# Altium schematic symbol library Induct-filter.SchLib: 218 symbols (part 1 of 2)
Pins are listed as number, name and electrical type; pins without a type are passive.

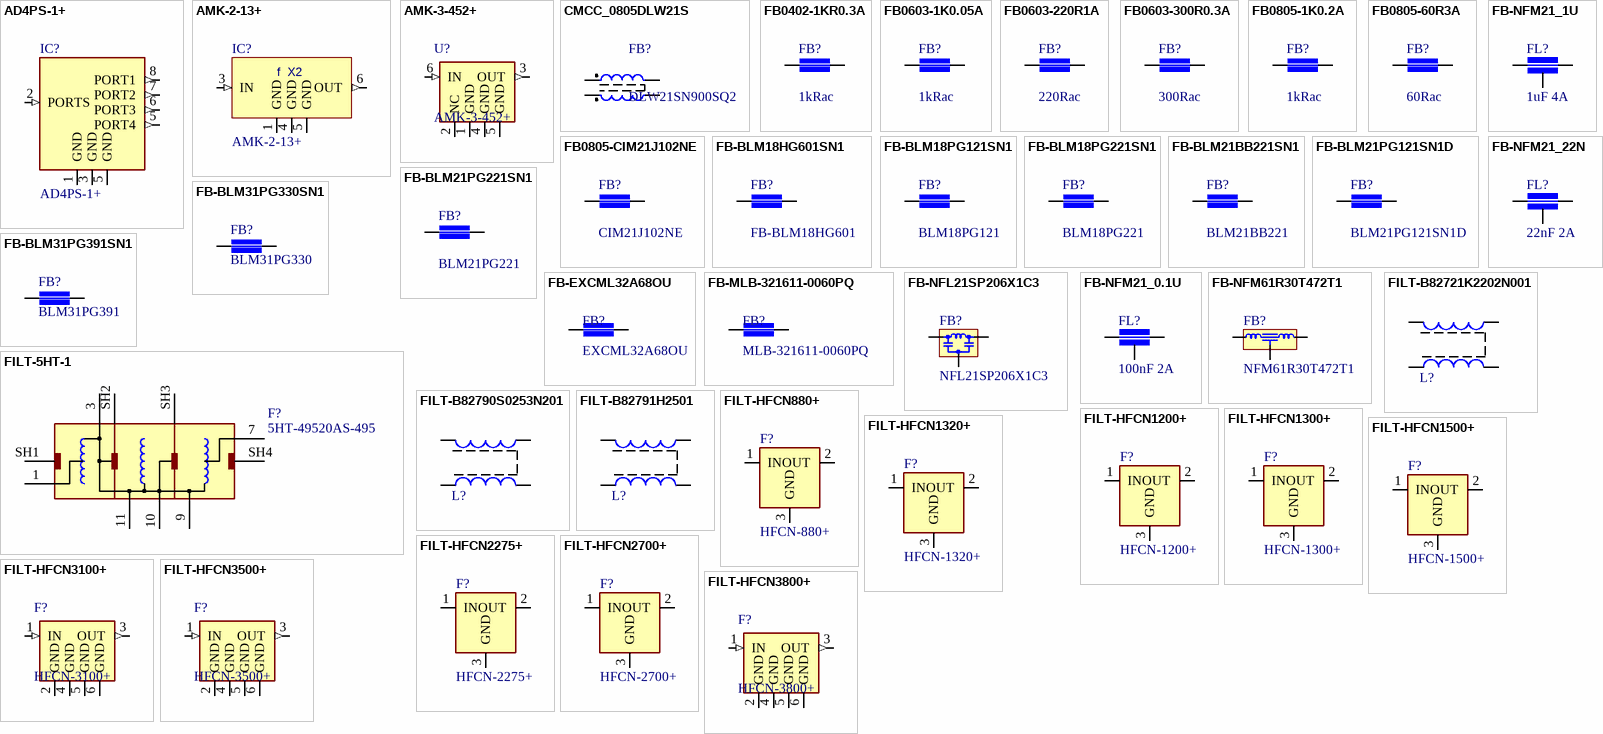
[diagram p0: symbols AD4PS-1+ to FILT-HFCN3800+]

## AD4PS-1+
designator IC?
X2 Frequency multiplier; Manufacturer: Mini Circuits; Sort: 510; Tech: SMDR; Manufacturer No: AD4PS-1+; Package: CJ725; Price: 0
footprint RFTRF-CD452
pins: 1 GND (power), 2 PORTS (in), 3 GND (power), 5 GND (power), 5 PORT4 (out), 6 PORT3 (out), 7 PORT2 (out), 8 PORT1 (out)

## AMK-2-13+
designator IC?
X2 Frequency multiplier; Manufacturer: Mini Circuits; Sort: 510; Tech: SMDR; Manufacturer No: AMK-2-13+; Package: CD542; Price: 0
footprint RFTRF-CD452
pins: 1 GND (power), 3 IN (in), 4 GND (power), 5 GND (power), 6 OUT (out)
text: f  X2

## AMK-3-452+
designator U?
X3 Frequency Multiplier; Manufacturer: MiniCircuits; Comment2: FROM 3000 TO 4500MHz  50R; Sort: 330; Tech: SMDR; Manufacturer No: AMK-3-452+; Package: CD636; Price: 0
footprint CD636 (X3 Frequency Multiplier 6 pin R2.54mm)
pins: 1 GND (power), 2 NC (power), 3 OUT (out), 4 GND (power), 5 GND (power), 6 IN (in)

## CMCC_0805DLW21S
designator FB?, comment DLW21SN900SQ2
Chip Common Mode Choke Coils 0805; Manufacturer: Murata, Farnell; Manufacturer No: DLW21SN900SQ2, 1515594; Comment2: 90R 330mA 50V 10MR; Sort: 342; Tech: SMDR; Package: Chip Coil 0805; Price: 0
signal-integrity model Model Name (Model Description)
footprint CCMCC0805 (Chip Common Mode Choke Coil 0805)
pins: 1, 2, 3, 4

## FB0402-1KR0.3A
designator FB?, comment 1kRac
Feritte filter smd 0402 0.2A; Manufacturer: Wuerth, Farnell; Manufacturer No: 742792796, 1800341; Comment2: 1kRac/100MHz 0.2A 1.5Rdc; Sort: 342; Tech: SMDR; Package: Filter Chip 0603; Price: 0.2
signal-integrity model Model Name (Model Description)
footprint FB0402-1 (Chip Ferrite Bead, 2-Leads, Body 1,6x0,8mm, IPC Medium Density)
pins: 1, 2

## FB0603-1K0.05A
designator FB?, comment 1kRac
Feritte filter smd 0603 0.05A; Manufacturer: Wuerth, Farnell; Manufacturer No: 742861210, 1748582; Comment2: 1kRac/100MHz 0.05A 1.8Rdc; Sort: 342; Tech: SMDR; Package: Filter Chip 0603; Price: 0.2
signal-integrity model Model Name (Model Description)
footprint FB0603-1 (Chip Ferrite Bead, 2-Leads, Body 1,6x0,8mm, IPC Medium Density)
pins: 1, 2

## FB0603-220R1A
designator FB?, comment 220Rac
Feritte filter smd 0603 1A; Manufacturer: Wuerth Elektronik, Farnell; Manufacturer No: 742792604, 1635701; Comment2: 220Rac 1.0A 0.05Rdc; Sort: 342; Tech: SMDR; Package: Filter Chip 0603; Price: 0.15
signal-integrity model Model Name (Model Description)
footprint FB0603-1 (Chip Ferrite Bead, 2-Leads, Body 1,6x0,8mm, IPC Medium Density)
pins: 1, 2

## FB0603-300R0.3A
designator FB?, comment 300Rac
Feritte filter smd 0603 0.3A; Manufacturer: Wuerth, Farnell; Manufacturer No: 742792640, 1800348; Comment2: 300Rac/100MHz 0.3A 0.35Rdc; Sort: 342; Tech: SMDR; Package: Filter Chip 0603; Price: 0.2
signal-integrity model Model Name (Model Description)
footprint FB0603-1 (Chip Ferrite Bead, 2-Leads, Body 1,6x0,8mm, IPC Medium Density)
pins: 1, 2

## FB0805-1K0.2A
designator FB?, comment 1kRac
Feritte filter smd 0805 0.2A; Manufacturer: Wurth Elektronik, Farnell; Manufacturer No: 74279205, 1635721; Comment2: 1KRac 0.2A 0.45Rdc; Sort: 342; Tech: SMDR; Package: Filter Chip 0805; Price: 0
signal-integrity model Model Name (Model Description)
footprint FB0805-1 (Chip Ferrite Bead, 2-Leads, Body 2,0x1,3mm, IPC Medium Density)
pins: 1, 2

## FB0805-60R3A
designator FB?, comment 60Rac
Feritte filter smd 0805 3A; Manufacturer: Wuerth Elektronik, Farnell; Manufacturer No: 742792063, 1635730; Comment2: 60Rac 3A 0.025Rdc; Sort: 342; Tech: SMDR; Package: Filter Chip 0805; Price: 0
signal-integrity model Model Name (Model Description)
footprint FB0805-1 (Chip Ferrite Bead, 2-Leads, Body 2,0x1,3mm, IPC Medium Density)
pins: 1, 2

## FB0805-CIM21J102NE
designator FB?, comment CIM21J102NE
Feritte filter smd 0805 500mA; Manufacturer: Samsung EMA; Comment2: 1kRac 500mA 0.4Rdc; Sort: 342; Tech: SMDR; Manufacturer No: CIM21J102NE; Package: Filter Chip 0805; Price: 0.1; Supplier: Digi-Key; Supplier No: 1276-6331-1-ND
signal-integrity model Model Name (Model Description)
footprint FB0805-1 (Chip Ferrite Bead, 2-Leads, Body 2,0x1,3mm, IPC Medium Density)
pins: 1, 2

## FB-BLM18HG601SN1
designator FB?, comment FB-BLM18HG601
Feritte filter smd 0603 0.2A; Manufacturer: Murata; Manufacturer No: BLM18HG601SN1; Comment2: 600Rac/100MHz 700Rac/1GHz 0.2A 1.0Rdc; Sort: 342; Tech: SMDR; Package: Filter Chip 0603; Price: 0
signal-integrity model Model Name (Model Description)
footprint FB0603-1 (Chip Ferrite Bead, 2-Leads, Body 1,6x0,8mm, IPC Medium Density)
pins: 1, 2

## FB-BLM18PG121SN1
designator FB?, comment BLM18PG121
Feritte filter smd 0603 2A; Manufacturer: Murata; Manufacturer No: BLM18PG121SN1; Comment2: 120Rac 2A 0.05Rdc; Sort: 342; Tech: SMDR; Package: Filter Chip 0603; Price: 0
signal-integrity model Model Name (Model Description)
footprint FB0603-1 (Chip Ferrite Bead, 2-Leads, Body 1,6x0,8mm, IPC Medium Density)
pins: 1, 2

## FB-BLM18PG221SN1
designator FB?, comment BLM18PG221
Feritte filter smd 0603 1.4A; Manufacturer: Murata; Manufacturer No: BLM18PG221SN1; Comment2: 220Rac 1.4A 0.1Rdc; Sort: 342; Tech: SMDR; Package: Filter Chip 0603; Price: 0
signal-integrity model Model Name (Model Description)
footprint FB0603-1 (Chip Ferrite Bead, 2-Leads, Body 1,6x0,8mm, IPC Medium Density)
pins: 1, 2

## FB-BLM21BB221SN1
designator FB?, comment BLM21BB221
Feritte filter smd 0805 0.2A; Manufacturer: Murata; Manufacturer No: BLM21BB221SN1; Comment2: 220Rac 0.2A 0.035Rdc; Sort: 342; Tech: SMDR; Package: Filter Chip 0805; Price: 0
signal-integrity model Model Name (Model Description)
footprint FB0805-1 (Chip Ferrite Bead, 2-Leads, Body 2,0x1,3mm, IPC Medium Density)
pins: 1, 2

## FB-BLM21PG121SN1D
designator FB?, comment BLM21PG121SN1D
Feritte filter smd 0805 3A; Manufacturer: Murata; Comment2: 120Rac 3A 0.025Rdc; Sort: 342; Tech: SMDR; Manufacturer No: BLM21PG121SN1D; Package: Filter Chip 0805; Price: 0.13; Supplier: Digi-Key; Supplier No: 490-5986-1-ND
signal-integrity model Model Name (Model Description)
footprint FB0805-1 (Chip Ferrite Bead, 2-Leads, Body 2,0x1,3mm, IPC Medium Density)
pins: 1, 2

## FB-BLM21PG221SN1
designator FB?, comment BLM21PG221
Feritte filter smd 0805 2A; Manufacturer: Murata; Manufacturer No: BLM21PG221SN1; Comment2: 220Rac 2A 0.05Rdc; Sort: 342; Tech: SMDR; Package: Filter Chip 0805; Price: 0
signal-integrity model Model Name (Model Description)
footprint FB0805-1 (Chip Ferrite Bead, 2-Leads, Body 2,0x1,3mm, IPC Medium Density)
pins: 1, 2

## FB-BLM31PG330SN1
designator FB?, comment BLM31PG330
Feritte filter smd 6A; Manufacturer: Murata; Manufacturer No: BLM31PG330SN1; Comment2: 33Rac 6A 0.01Rdc; Sort: 342; Tech: SMDR; Package: Filter Chip 1206; Price: 0
footprint FB1206-1 (Feritni filter smd 1206)
signal-integrity model Model Name (Model Description)
pins: 1, 2

## FB-BLM31PG391SN1
designator FB?, comment BLM31PG391
Feritte filter smd; Manufacturer: Murata; Manufacturer No: BLM31PG391SN1; Comment2: 390Rac 2A 0.05Rdc; Sort: 342; Tech: SMDR; Package: Filter Chip 1206; Price: 0
footprint FB1206-1 (Feritni filter smd 1206)
signal-integrity model Model Name (Model Description)
pins: 1, 2

## FB-EXCML32A68OU
designator FB?, comment EXCML32A68OU
Feritte filter smd 3A; Manufacturer: Farnell, Panasonic; Manufacturer No: 1292704, EXCML32A68OU; Comment2: 68Rac 3A 0.012Rdc; Sort: 342; Tech: SMDR; Package: Filter Chip 1206; Price: 0
footprint FB1206-1 (Feritni filter smd 1206)
signal-integrity model Model Name (Model Description)
pins: 1, 2

## FB-MLB-321611-0060PQ
designator FB?, comment MLB-321611-0060PQ
Feritte filter smd 3A; Manufacturer: Farnell, Kitagawa; Manufacturer No: 1308785, MLB-321611-0060PQ; Comment2: 60Rac 3A 0.04Rdc; Sort: 342; Tech: SMDR; Package: Filter Chip 1206; Price: 0
footprint FB1206-1 (Feritni filter smd 1206)
signal-integrity model Model Name (Model Description)
pins: 1, 2

## FB-NFL21SP206X1C3
designator FB?, comment NFL21SP206X1C3
Feritte filter smd; Manufacturer: Murata; Comment2: 20MHz 100mA 8.5R 16V; Sort: 342; Tech: SMDR; Manufacturer No: NFL21SP206X1C3; Package: Filter Chip 0805; Price: 0
signal-integrity model Model Name (Model Description)
footprint FV0805-1 (Chip filter 0805)
pins: 1, 2, 3 GND

## FB-NFM21_0.1U
designator FL?, comment 100nF 2A
Feritte filter smd; Manufacturer: Murata; Manufacturer No: NFM21PC104R1E3D; Comment2: 100nF 2A 25V; Sort: 342; Tech: SMDR; Package: Filter Chip 0805; Price: 0.2
signal-integrity model Model Name (Model Description)
footprint FV0805-1 (Chip filter 0805)
pins: 1, 2, 3 GND

## FB-NFM21_1U
designator FL?, comment 1uF 4A
Feritte filter smd; Manufacturer: Murata; Manufacturer No: NFM21PC105B1C3; Comment2: 1uF 4A 16V; Sort: 342; Tech: SMDR; Package: Filter Chip 0805; Price: 0.2
signal-integrity model Model Name (Model Description)
footprint FV0805-1 (Chip filter 0805)
pins: 1, 2, 3 GND

## FB-NFM21_22N
designator FL?, comment 22nF 2A
Feritte filter smd; Manufacturer: Murata; Manufacturer No: NFM21CC223R1H3; Comment2: 22nF 2A 50V; Sort: 342; Tech: SMDR; Package: Filter Chip 0805; Price: 0
signal-integrity model Model Name (Model Description)
footprint FV0805-1 (Chip filter 0805)
pins: 1, 2, 3 GND

## FB-NFM61R30T472T1
designator FB?, comment NFM61R30T472T1
Feritte filter smd; Manufacturer: Murata; Comment2: 4700pF 2A 50V; Sort: 342; Tech: SMDR; Manufacturer No: NFM61R30T472T1; Package: Filter 6.8x1.6mm; Price: 0
signal-integrity model Model Name (Model Description)
footprint NFM61
pins: 1, 2 GND, 3

## FILT-5HT-1
designator F?, comment 5HT-49520AS-495
RF filter Radial Helical triple tuned; Manufacturer: Toko; Comment2: 495MHz; Sort: 330; Tech: THTW; Package: TOKO5HTAS; Manufacturer No: 5HT-49520AS-495; Price: 0
footprint TOKO5HTAS (Filter 5HT aAS THT)
pins: 1, 3, 5 hidden, 7, 9, 10, 11, SH1, SH2, SH3, SH4

## FILT-B82721K2202N001
designator L?, comment 1m  (value not drawn)
Common mode filter 2A 250V 1mH; Manufacturer: Epcos, Burklin; Manufacturer No: B82721K2202N001, 75D4962; Comment2: 250V 2A 0.090R; Sort: 360; Tech: THDW; Price: 0
signal-integrity model Model Name (Model Description)
footprint L-COMMCHOKE-3 (common mode choke)
pins: 1, 2, 3, 4

## FILT-B82790S0253N201
designator L?, comment 25mH  (value not drawn)
Common mode filter 0.5A 250V 0.13Ohm; Manufacturer: Epcos; Manufacturer No: B82790S0253N201; Comment2: 250V 0.5A 0.13R; Sort: 360; Tech: THDW; Price: 0
signal-integrity model Model Name (Model Description)
footprint L-COMMCHOKE-2
pins: 1, 2, 3, 4

## FILT-B82791H2501
designator L?, comment 10mH  (value not drawn)
Common mode filter 0.5A 230V 1Ohm; Manufacturer: Epcos; Manufacturer No: B82791H2501N1; Sort: 360; Tech: THDW; Price: 0
signal-integrity model Model Name (Model Description)
footprint COMMCHOKE-1 (common mode choke)
pins: 1, 2, 3, 4

## FILT-HFCN880+
designator F?, comment HFCN-880+
High Pass Filter; Manufacturer: MiniCircuits; Comment2: 880 to 4600 MHz 50R; Sort: 340; Tech: SMDR; Manufacturer No: HFCN-880+; Package: Filter Chip 1206; Price: 0
footprint FV1206-1 (Filter chip 1206 4 pad)
pins: 1 IN, 2 OUT, 3 GND

## FILT-HFCN1200+
designator F?, comment HFCN-1200+
High Pass Filter; Manufacturer: MiniCircuits; Comment2: 1220 to 4600 MHz 50R; Sort: 340; Tech: SMDR; Manufacturer No: HFCN-1200+; Package: Filter Chip 1206; Price: 0
footprint FV1206-1 (Filter chip 1206 4 pad)
pins: 1 IN, 2 OUT, 3 GND

## FILT-HFCN1300+
designator F?, comment HFCN-1300+
High Pass Filter; Manufacturer: MiniCircuits; Comment2: 1510 to 5000 MHz 50R; Sort: 340; Tech: SMDR; Manufacturer No: HFCN-1300+; Package: Filter Chip 1206; Price: 0
footprint FV1206-1 (Filter chip 1206 4 pad)
pins: 1 IN, 2 OUT, 3 GND

## FILT-HFCN1320+
designator F?, comment HFCN-1320+
High Pass Filter; Manufacturer: MiniCircuits; Comment2: 1400 to 5000 MHz 50R; Sort: 340; Tech: SMDR; Manufacturer No: HFCN-1320+; Package: Filter Chip 1206; Price: 0
footprint FV1206-1 (Filter chip 1206 4 pad)
pins: 1 IN, 2 OUT, 3 GND

## FILT-HFCN1500+
designator F?, comment HFCN-1500+
High Pass Filter; Manufacturer: MiniCircuits; Comment2: 1600 to 5500 MHz 50R; Sort: 340; Tech: SMDR; Manufacturer No: HFCN-1500+; Package: Filter Chip 1206; Price: 0
footprint FV1206-1 (Filter chip 1206 4 pad)
pins: 1 IN, 2 OUT, 3 GND

## FILT-HFCN2275+
designator F?, comment HFCN-2275+
High Pass Filter; Manufacturer: MiniCircuits; Comment2: 2275 to 7550 MHz 50R; Sort: 340; Tech: SMDR; Manufacturer No: HFCN-2275+; Package: Filter Chip 1206; Price: 0
footprint FV1206-1 (Filter chip 1206 4 pad)
pins: 1 IN, 2 OUT, 3 GND

## FILT-HFCN2700+
designator F?, comment HFCN-2700+
High Pass Filter; Manufacturer: MiniCircuits; Comment2: 3150 to 7550 MHz 50R; Sort: 340; Tech: SMDR; Manufacturer No: HFCN-2700+; Package: Filter Chip 1206; Price: 0
footprint FV1206-1 (Filter chip 1206 4 pad)
pins: 1 IN, 2 OUT, 3 GND

## FILT-HFCN3100+
designator F?, comment HFCN-3100+
High Pass Filter; Manufacturer: MiniCircuits; Comment2: FROM 3400 MHz TO 9900MHz  50R; Sort: 330; Tech: SMDR; Manufacturer No: HFCN-3100+; Package: Chip Filter 1206 6pin; Price: 0
footprint FV1206-6 (Filter chip 1206 6pad)
pins: 1 IN (in), 2 GND (power), 3 OUT (out), 4 GND (power), 5 GND (power), 6 GND (power)

## FILT-HFCN3500+
designator F?, comment HFCN-3500+
High Pass Filter; Manufacturer: MiniCircuits; Comment2: FROM 3900 MHz TO 9800MHz  50R; Sort: 330; Tech: SMDR; Manufacturer No: HFCN-3500+; Package: Chip Filter 1206 6pin; Price: 0
footprint FV1206-6 (Filter chip 1206 6pad)
pins: 1 IN (in), 2 GND (power), 3 OUT (out), 4 GND (power), 5 GND (power), 6 GND (power)

## FILT-HFCN3800+
designator F?, comment HFCN-3800+
High Pass Filter; Manufacturer: MiniCircuits; Comment2: FROM 3800 MHz  50R; Sort: 330; Tech: SMDR; Manufacturer No: HFCN-3800+; Package: Chip Filter 1206 6pin; Price: 0
footprint FV1206-6 (Filter chip 1206 6pad)
pins: 1 IN (in), 2 GND (power), 3 OUT (out), 4 GND (power), 5 GND (power), 6 GND (power)

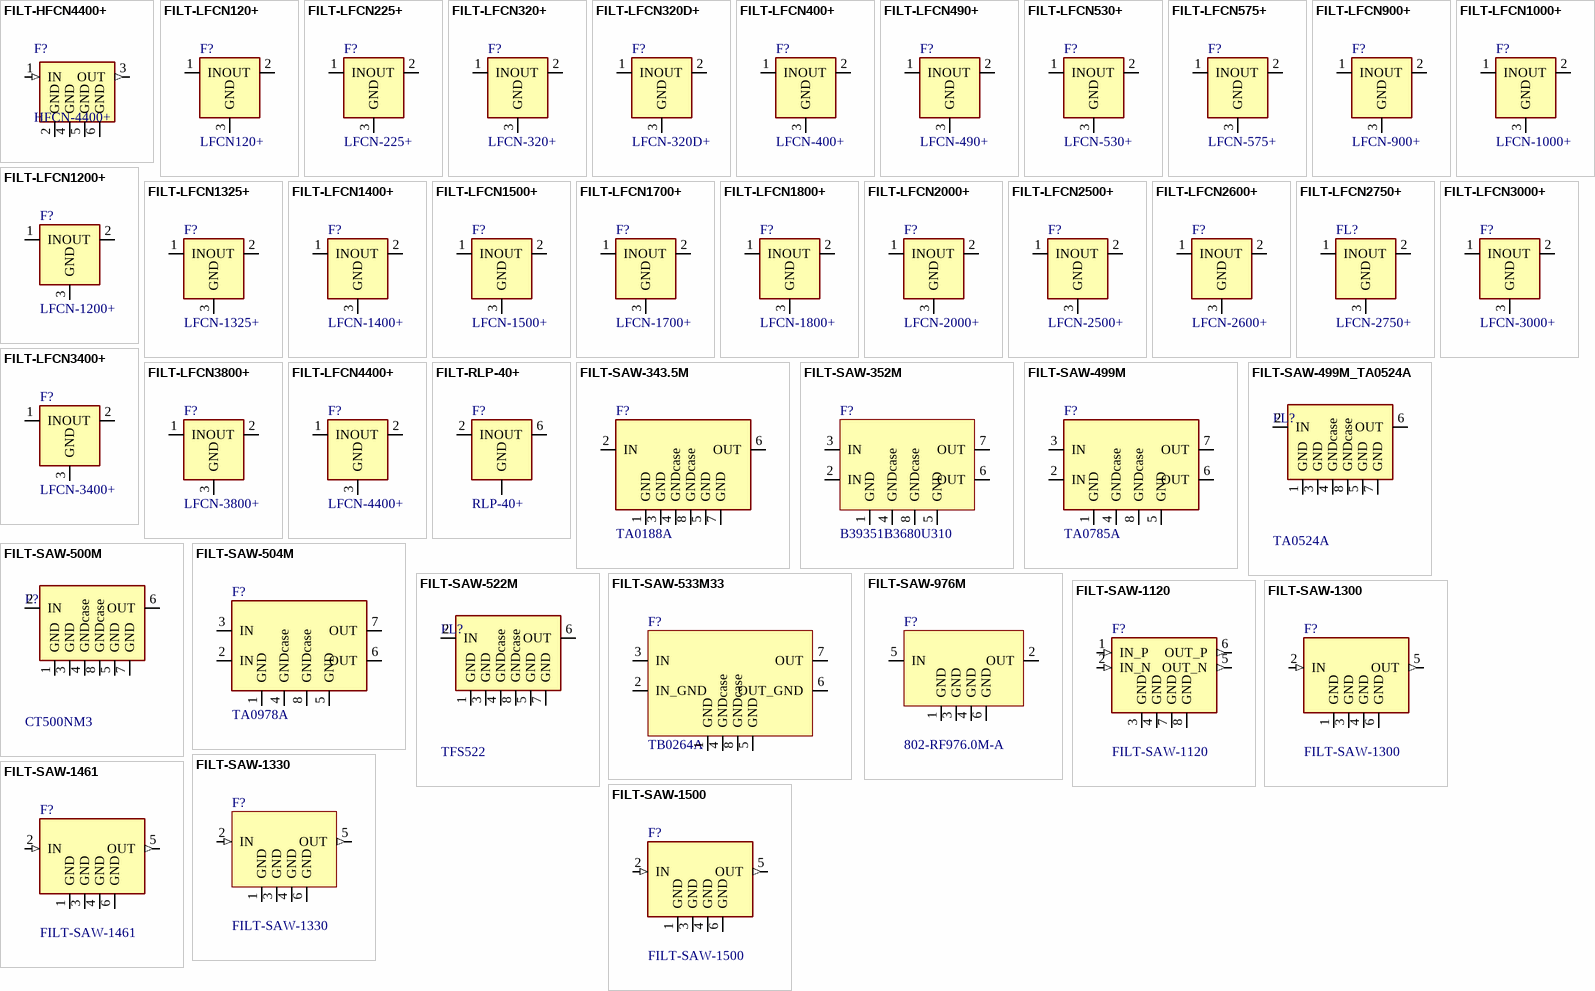
[diagram p1: symbols FILT-HFCN4400+ to FILT-SAW-1500]

## FILT-HFCN4400+
designator F?, comment HFCN-4400+
High Pass Filter; Manufacturer: MiniCircuits; Comment2: 5000 to 10100MHz  50R; Sort: 330; Tech: SMDR; Manufacturer No: HFCN-4400+; Package: Chip Filter 1206 6pin; Price: 0
footprint FV1206-6 (Filter chip 1206 6pad)
pins: 1 IN (in), 2 GND (power), 3 OUT (out), 4 GND (power), 5 GND (power), 6 GND (power)

## FILT-LFCN120+
designator F?, comment LFCN120+
Low Pass Filter DC - 120MHz; Manufacturer: MiniCircuits; Comment2: DC to 120MHz  50R; Sort: 340; Tech: SMDR; Manufacturer No: LFCN120+; Package: Filter Chip 1206; Price: 3.5
footprint FV1206-1 (Filter chip 1206 4 pad)
pins: 1 IN, 2 OUT, 3 GND

## FILT-LFCN225+
designator F?, comment LFCN-225+
Low Pass Filter; Manufacturer: MiniCircuits; Comment2: DC to 400MHz 50R; Sort: 340; Tech: SMDR; Manufacturer No: LFCN-225+; Package: Filter Chip 1206; Price: 0
footprint FV1206-1 (Filter chip 1206 4 pad)
pins: 1 IN, 2 OUT, 3 GND

## FILT-LFCN320+
designator F?, comment LFCN-320+
Low Pass Filter; Manufacturer: MiniCircuits; Comment2: DC to 320MHz 50R; Sort: 340; Tech: SMDR; Manufacturer No: LFCN-320+; Package: Filter Chip 1206; Price: 0
footprint FV1206-1 (Filter chip 1206 4 pad)
pins: 1 IN, 2 OUT, 3 GND

## FILT-LFCN320D+
designator F?, comment LFCN-320D+
Low Pass Filter; Manufacturer: MiniCircuits; Comment2: DC to 320MHz 50R; Sort: 340; Tech: SMDR; Manufacturer No: LFCN-320D+; Package: Filter Chip 1206; Price: 0
footprint FV1206-1 (Filter chip 1206 4 pad)
pins: 1 IN, 2 OUT, 3 GND

## FILT-LFCN400+
designator F?, comment LFCN-400+
Low Pass Filter; Manufacturer: MiniCircuits; Comment2: DC to 400MHz 50R; Sort: 340; Tech: SMDR; Manufacturer No: LFCN-400+; Package: Filter Chip 1206; Price: 0
footprint FV1206-1 (Filter chip 1206 4 pad)
pins: 1 IN, 2 OUT, 3 GND

## FILT-LFCN490+
designator F?, comment LFCN-490+
Low Pass Filter; Manufacturer: MiniCircuits; Comment2: DC to 490MHz 50R; Sort: 340; Tech: SMDR; Manufacturer No: LFCN-490+; Package: Filter Chip 1206; Price: 0
footprint FV1206-1 (Filter chip 1206 4 pad)
pins: 1 IN, 2 OUT, 3 GND

## FILT-LFCN530+
designator F?, comment LFCN-530+
Low Pass Filter DC - 530MHz; Manufacturer: MiniCircuits; Comment2: DC to 530MHz  50R; Sort: 340; Tech: SMDR; Manufacturer No: LFCN-530+; Package: Filter Chip 1206; Price: 2.5
footprint FV1206-1 (Filter chip 1206 4 pad)
pins: 1 IN, 2 OUT, 3 GND

## FILT-LFCN575+
designator F?, comment LFCN-575+
Low Pass Filter; Manufacturer: MiniCircuits; Comment2: DC to 575MHz  50R; Sort: 340; Tech: SMDR; Manufacturer No: LFCN-575+; Package: Filter Chip 1206; Price: 0
footprint FV1206-1 (Filter chip 1206 4 pad)
pins: 1 IN, 2 OUT, 3 GND

## FILT-LFCN900+
designator F?, comment LFCN-900+
Low Pass Filter; Manufacturer: MiniCircuits; Comment2: DC to 900MHz  50R; Sort: 340; Tech: SMDR; Manufacturer No: LFCN-900+; Package: Filter Chip 1206; Price: 0
footprint FV1206-1 (Filter chip 1206 4 pad)
pins: 1 IN, 2 OUT, 3 GND

## FILT-LFCN1000+
designator F?, comment LFCN-1000+
Low Pass Filter; Manufacturer: MiniCircuits; Comment2: DC to 1000MHz  50R; Sort: 340; Tech: SMDR; Manufacturer No: LFCN-1000+; Package: Filter Chip 1206; Price: 0
footprint FV1206-1 (Filter chip 1206 4 pad)
pins: 1 IN, 2 OUT, 3 GND

## FILT-LFCN1200+
designator F?, comment LFCN-1200+
Low Pass Filter; Manufacturer: MiniCircuits; Comment2: DC to 1200MHz 50R; Sort: 340; Tech: SMDR; Manufacturer No: LFCN-1200+; Package: Filter Chip 1206; Price: 0
footprint FV1206-1 (Filter chip 1206 4 pad)
pins: 1 IN, 2 OUT, 3 GND

## FILT-LFCN1325+
designator F?, comment LFCN-1325+
Low Pass Filter; Manufacturer: MiniCircuits; Comment2: DC to 1325MHz 50R; Sort: 340; Tech: SMDR; Manufacturer No: LFCN-1325+; Package: Filter Chip 1206; Price: 0
footprint FV1206-1 (Filter chip 1206 4 pad)
pins: 1 IN, 2 OUT, 3 GND

## FILT-LFCN1400+
designator F?, comment LFCN-1400+
Low Pass Filter; Manufacturer: MiniCircuits; Comment2: DC to 1400MHz 50R; Sort: 340; Tech: SMDR; Manufacturer No: LFCN-1400+; Package: Filter Chip 1206; Price: 0
footprint FV1206-1 (Filter chip 1206 4 pad)
pins: 1 IN, 2 OUT, 3 GND

## FILT-LFCN1500+
designator F?, comment LFCN-1500+
Low Pass Filter; Manufacturer: MiniCircuits; Comment2: DC to 1500MHz 50R; Sort: 340; Tech: SMDR; Manufacturer No: LFCN-1500+; Package: Filter Chip 1206; Price: 0
footprint FV1206-1 (Filter chip 1206 4 pad)
pins: 1 IN, 2 OUT, 3 GND

## FILT-LFCN1700+
designator F?, comment LFCN-1700+
Low Pass Filter; Manufacturer: MiniCircuits; Comment2: DC to 1700MHz 50R; Sort: 340; Tech: SMDR; Manufacturer No: LFCN-1700+; Package: Filter Chip 1206; Price: 0
footprint FV1206-1 (Filter chip 1206 4 pad)
pins: 1 IN, 2 OUT, 3 GND

## FILT-LFCN1800+
designator F?, comment LFCN-1800+
Low Pass Filter; Manufacturer: MiniCircuits; Comment2: DC to 1800MHz 50R; Sort: 340; Tech: SMDR; Manufacturer No: LFCN-1800+; Package: Filter Chip 1206; Price: 0
footprint FV1206-1 (Filter chip 1206 4 pad)
pins: 1 IN, 2 OUT, 3 GND

## FILT-LFCN2000+
designator F?, comment LFCN-2000+
Low Pass Filter; Manufacturer: MiniCircuits; Comment2: DC to 2000MHz  50R; Sort: 340; Tech: SMDR; Manufacturer No: LFCN-2000+; Package: Filter Chip 1206; Price: 0
footprint FV1206-1 (Filter chip 1206 4 pad)
pins: 1 IN, 2 OUT, 3 GND

## FILT-LFCN2500+
designator F?, comment LFCN-2500+
High Pass Filter; Manufacturer: MiniCircuits; Comment2: DC to 2500 MHz 50R; Sort: 340; Tech: SMDR; Manufacturer No: LFCN-2500+; Package: Filter Chip 1206; Price: 0
footprint FV1206-1 (Filter chip 1206 4 pad)
pins: 1 IN, 2 OUT, 3 GND

## FILT-LFCN2600+
designator F?, comment LFCN-2600+
High Pass Filter; Manufacturer: MiniCircuits; Comment2: DC to 2600 MHz 50R; Sort: 340; Tech: SMDR; Manufacturer No: LFCN-2600+; Package: Filter Chip 1206; Price: 0
footprint FV1206-1 (Filter chip 1206 4 pad)
pins: 1 IN, 2 OUT, 3 GND

## FILT-LFCN2750+
designator FL?, comment LFCN-2750+
Low Pass Filter DC - 2750 MHz; Manufacturer: MiniCircuits; Comment2: DC to 2750 MHz 50R; Sort: 340; Tech: SMDR; Manufacturer No: LFCN-2750+; Package: Filter Chip 1206; Price: 2
footprint FV1206-1 (Filter chip 1206 4 pad)
pins: 1 IN, 2 OUT, 3 GND

## FILT-LFCN3000+
designator F?, comment LFCN-3000+
Low Pass Filter; Manufacturer: MiniCircuits; Comment2: DC to 3000MHz 50R; Sort: 340; Tech: SMDR; Manufacturer No: LFCN-3000+; Package: Filter Chip 1206; Price: 0
footprint FV1206-1 (Filter chip 1206 4 pad)
pins: 1 IN, 2 OUT, 3 GND

## FILT-LFCN3400+
designator F?, comment LFCN-3400+
Low Pass Filter; Manufacturer: MiniCircuits; Comment2: DC to 3400MHz 50R; Sort: 340; Tech: SMDR; Manufacturer No: LFCN-3400+; Package: Filter Chip 1206; Price: 0
footprint FV1206-1 (Filter chip 1206 4 pad)
pins: 1 IN, 2 OUT, 3 GND

## FILT-LFCN3800+
designator F?, comment LFCN-3800+
Low Pass Filter; Manufacturer: MiniCircuits; Comment2: DC to 3900MHz 50R; Sort: 340; Tech: SMDR; Manufacturer No: LFCN-3800+; Package: Filter Chip 1206; Price: 0
footprint FV1206-1 (Filter chip 1206 4 pad)
pins: 1 IN, 2 OUT, 3 GND

## FILT-LFCN4400+
designator F?, comment LFCN-4400+
Low Pass Filter; Manufacturer: MiniCircuits; Comment2: DC to 4400MHz 50R; Sort: 340; Tech: SMDR; Manufacturer No: LFCN-4400+; Package: Filter Chip 1206; Price: 2.5
footprint FV1206-1 (Filter chip 1206 4 pad)
pins: 1 IN, 2 OUT, 3 GND

## FILT-RLP-40+
designator F?, comment RLP-40+
Low Pass Filter; Manufacturer: MiniCircuits; Comment2: DC to 40MHz  50R; Sort: 340; Tech: SMDR; Manufacturer No: RLP-40+; Package: GP731; Price: 8
footprint GP731 (Low Pass Filter 8.9x8.9x2.54mm 8pin)
pins: 1 GND, 2 IN, 3 GND hidden, 4 GND hidden, 5 GND hidden, 6 OUT, 7 GND hidden, 8 GND hidden

## FILT-SAW-343.5M
designator F?, comment TA0188A
SAW filter SMD; Manufacturer: C-Tech; Comment2: 343.5MHz; Sort: 350; Tech: SMDR; Manufacturer No: TA0188A; Package: QCC8C; Price: 0
footprint QCC8C-3 (SAW filter 8 pin R1.27mm)
pins: 1 GND, 2 IN, 3 GND, 4 GNDcase, 5 GND, 6 OUT, 7 GND, 8 GNDcase

## FILT-SAW-352M
designator F?, comment B39351B3680U310
SAW filter SMD; Manufacturer: EPCOS; Comment2: 352MHz; Sort: 350; Tech: SMDR; Manufacturer No: B39351B3680U310; Package: QCC8C; Price: 0
footprint QCC8C-1 (SAW filter 8 pin R1.27mm)
pins: 1 GND, 2 IN, 3 IN, 4 GNDcase, 5 GND, 6 OUT, 7 OUT, 8 GNDcase

## FILT-SAW-499M
designator F?, comment TA0785A
SAW filter SMD; Manufacturer: Tai-Saw Technology; Comment2: 499MHz 3Vdc 10dBm inp -40..85degC; Sort: 350; Tech: SMDR; Manufacturer No: TA0785A; Package: QCC8; Price: 0
footprint QCC8C-1 (SAW filter 8 pin R1.27mm)
pins: 1 GND, 2 IN, 3 IN, 4 GNDcase, 5 GND, 6 OUT, 7 OUT, 8 GNDcase

## FILT-SAW-499M_TA0524A
designator FL?, comment TA0524A
SAW filter SMD; Manufacturer: Tai-Saw Technology; Comment2: 499,25MHz 5Vdc 10dBm inp -20..70degC; Sort: 350; Tech: SMDR; Manufacturer No: TA0524A; Package: SAW filter 8 pin; Price: 0
footprint SAW_SQ38&50H12N-8 (SAW filter 8 pin 3,8x3,8x1,2mm&5x5x1.2mm; P1,27mm)
pins: 1 GND, 2 IN, 3 GND, 4 GNDcase, 5 GND, 6 OUT, 7 GND, 8 GNDcase

## FILT-SAW-500M
designator F?, comment CT500NM3
SAW filter SMD; Manufacturer: C-Tech; Comment2: 500MHz; Sort: 350; Tech: SMDR; Manufacturer No: CT500NM3; Package: QCC8; Price: 0
footprint QCC8C-1 (SAW filter 8 pin R1.27mm)
footprint SAW_SQ38&50H12N-8 (SAW filter 8 pin 3,8x3,8x1,2mm&5x5x1.2mm; P1,27mm)
pins: 1 GND, 2 IN, 3 GND, 4 GNDcase, 5 GND, 6 OUT, 7 GND, 8 GNDcase

## FILT-SAW-504M
designator F?, comment TA0978A
SAW filter SMD; Manufacturer: Tai-Saw Technology; Comment2: 504MHz 10Vdc 0dBm inp -10..50degC; Sort: 350; Tech: SMDR; Manufacturer No: TA0978A; Package: QCC8; Price: 0
footprint QCC8C-1 (SAW filter 8 pin R1.27mm)
pins: 1 GND, 2 IN, 3 IN, 4 GNDcase, 5 GND, 6 OUT, 7 OUT, 8 GNDcase

## FILT-SAW-522M
designator FL?, comment TFS522
SAW filter SMD; Manufacturer: Vectron; Comment2: 522MHz 24MHzbp 50Z; Sort: 350; Tech: SMDR; Manufacturer No: TFS522; Package: SAW filter 8 pin; Price: 0
footprint SAW_SQ38H12N-8 (SAW filter 8 pin 3,8x3,8x1,2mm; P1,27mm)
footprint SAW_SQ38&50H12N-8 (SAW filter 8 pin 3,8x3,8x1,2mm&5x5x1.2mm; P1,27mm)
pins: 1 GND, 2 IN, 3 GND, 4 GNDcase, 5 GND, 6 OUT, 7 GND, 8 GNDcase

## FILT-SAW-533M33
designator F?, comment TB0264A
SAW filter SMD; Manufacturer: TAI-SAW; Comment2: 533.33MHz; Sort: 350; Tech: SMDR; Manufacturer No: TB0264A; Package: QCC8; Price: 0
footprint QCC8C-2 (SAW filter 8 pin R1.27mm)
pins: 1 GND, 2 IN_GND, 3 IN, 4 GNDcase, 5 GND, 6 OUT_GND, 7 OUT, 8 GNDcase

## FILT-SAW-976M
designator F?, comment 802-RF976.0M-A
SAW filter SMD; Manufacturer: OSCILENT; Comment2: 976MHz; Sort: 350; Tech: SMDR; Manufacturer No: 802-RF976.0M-A; Package: 3x3SMD; Price: 0
footprint SAW3&1.3 (SAW filter 3x3 6pin; R1.27mm)
pins: 1 GND, 2 OUT, 3 GND, 4 GND, 5 IN, 6 GND

## FILT-SAW-1120
designator F?
DIF SAW filter SMD; Manufacturer: TST; Manufacturer No: TA0267A; Comment2: 1120MHz; Sort: 350; Tech: SMDR; Package: SMD 3.0x3.0; Price: 0
footprint SAW1120 (SAW filter 8 pin 3MM; R1.27mm)
pins: 1 IN_P (in), 2 IN_N (in), 3 GND (power), 4 GND (power), 5 OUT_N (out), 6 OUT_P (out), 7 GND (power), 8 GND (power)

## FILT-SAW-1300
designator F?
SAW filter SMD; Manufacturer: TST; Manufacturer No: TA0536A; Comment2: 1300MHz; Sort: 350; Tech: SMDR; Package: SMD 3.0x3.0; Price: 0
footprint SAW3&1.3 (SAW filter 3x3 6pin; R1.27mm)
pins: 1 GND (power), 2 IN (in), 3 GND (power), 4 GND (power), 5 OUT (out), 6 GND (power)

## FILT-SAW-1330
designator F?
SAW filter SMD; Manufacturer: TST; Manufacturer No: TA0566A; Sort: 350; Tech: SMDR; Package: SMD 3.0x3.0; Price: 0
footprint SAW3&1.3 (SAW filter 3x3 6pin; R1.27mm)
pins: 1 GND (power), 2 IN (in), 3 GND (power), 4 GND (power), 5 OUT (out), 6 GND (power)

## FILT-SAW-1461
designator F?
SAW filter SMD; Manufacturer: TST; Manufacturer No: TA0719A; Comment2: 1461.5MHz; Sort: 350; Tech: SMDR; Package: SMD 3.0x3.0; Price: 0
footprint SAW3&1.3 (SAW filter 3x3 6pin; R1.27mm)
pins: 1 GND (power), 2 IN (in), 3 GND (power), 4 GND (power), 5 OUT (out), 6 GND (power)

## FILT-SAW-1500
designator F?
SAW filter SMD; Manufacturer: TST; Manufacturer No: TA0522A; Comment2: 1500MHz SMD 3x3mm; Sort: 350; Tech: SMDR; Package: SMD 3.0x3.0; Price: 0
footprint SAW3&1.3 (SAW filter 3x3 6pin; R1.27mm)
pins: 1 GND (power), 2 IN (in), 3 GND (power), 4 GND (power), 5 OUT (out), 6 GND (power)

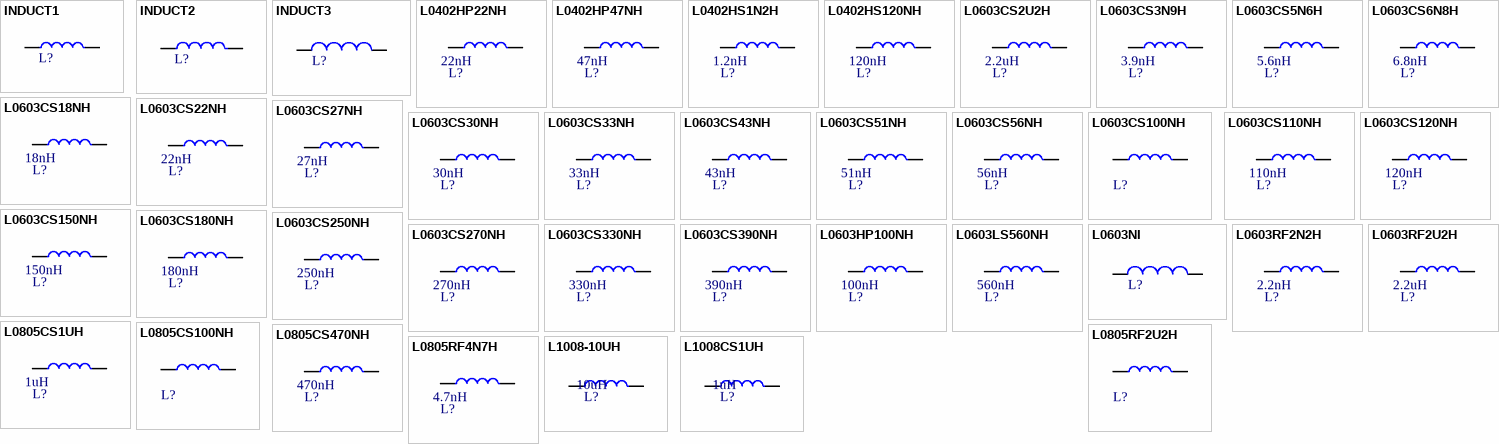
[diagram p2: symbols INDUCT1 to L1008CS1UH]

## INDUCT1
designator L?, comment 10uH  (value not drawn)
General purpose inductor; Sort: 310; Tech: SMDR; Manufacturer: *; Manufacturer No: *; Price: 0
signal-integrity model Model Name (Model Description)
footprint LC0402-1 (Chip inductor 0402)
footprint LC0603-1 (Chip  inductor  0603 (1608))
footprint LC0805-1 (Chip inductor  0805)
pins: 1, 2

## INDUCT2
designator L?, comment 10uH  (value not drawn)
General purpose inductor; Sort: 310; Tech: SMDR; Manufacturer: *; Manufacturer No: *; Comment2: 10uH; Price: 0
signal-integrity model Model Name (Model Description)
footprint RC0805-1 (Chip upor 0805)
pins: 1, 2

## INDUCT3
designator L?, comment 10uH  (value not drawn)
General purpose inductor; Sort: 310; Tech: SMDR; Manufacturer: *; Manufacturer No: *; Comment2: 10uH; Price: 0
signal-integrity model Model Name (Model Description)
footprint RC0805-1 (Chip upor 0805)
pins: 1, 2

## L0402HP22NH
designator L?, comment 22nH
RF chip inductor; Manufacturer: Coilcraft; Manufacturer No: 0402HP-22NXGLU; Comment2: 5% 800mA 0.16R Q60; Sort: 310; Tech: SMDR; Package: Chip Inductor 0402; Price: 0
signal-integrity model Model Name (Model Description)
footprint LC0402-1 (Chip inductor 0402)
footprint LC0402RF1 (Chip inductor 0402 RF pad)
pins: 1, 2

## L0402HP47NH
designator L?, comment 47nH
RF chip inductor; Manufacturer: Coilcraft; Manufacturer No: 0402HP-47NXGLU; Comment2: 5% 420mA 0.58R Q48; Sort: 310; Tech: SMDR; Package: Chip Inductor 0402; Price: 0
signal-integrity model Model Name (Model Description)
footprint LC0402-1 (Chip inductor 0402)
footprint LC0402RF1 (Chip inductor 0402 RF pad)
pins: 1, 2

## L0402HS1N2H
designator L?, comment 1.2nH
RF chip inductor; Manufacturer: Murata; Manufacturer No: LQG15HS1N2S02; Comment2: 25% 300mA 0.09R; Sort: 310; Tech: SMDR; Package: Chip Inductor 0402; Price: 0
signal-integrity model Model Name (Model Description)
footprint LC0402-1 (Chip inductor 0402)
footprint LC0402RF1 (Chip inductor 0402 RF pad)
pins: 1, 2

## L0402HS120NH
designator L?, comment 120nH
RF chip inductor; Manufacturer: Murata; Manufacturer No: LQG15HSR12JO2; Comment2: 5% 150mA 1.3R; Sort: 310; Tech: SMDR; Package: Chip Inductor 0402; Price: 0
signal-integrity model Model Name (Model Description)
footprint LC0402-1 (Chip inductor 0402)
footprint LC0402RF1 (Chip inductor 0402 RF pad)
pins: 1, 2

## L0603CS2U2H
designator L?, comment 2.2uH
RF inductor 0603; Manufacturer: Murata; Manufacturer No: LQM18FN2R2M00B; Comment2: 5% 120mA 0.4R; Sort: 310; Tech: SMDR; Package: Chip Inductor 0603; Price: 0
signal-integrity model Model Name (Model Description)
footprint LC0603-1 (Chip  inductor  0603 (1608))
pins: 1, 2

## L0603CS3N9H
designator L?, comment 3.9nH
RF chip inductor; Manufacturer: Coilcraft; Manufacturer No: 0603CS-3N9XJLU; Comment2: 5% 700mA 0.08R; Sort: 310; Tech: SMDR; Package: Chip Inductor 0603; Price: 0
signal-integrity model Model Name (Model Description)
footprint LC0603-1 (Chip  inductor  0603 (1608))
pins: 1, 2

## L0603CS5N6H
designator L?, comment 5.6nH
RF chip inductor; Manufacturer: Coilcraft; Manufacturer No: 0603CS-5N6XJLU; Comment2: 5% 700mA 0.12R; Sort: 310; Tech: SMDR; Package: Chip Inductor 0603; Price: 0
signal-integrity model Model Name (Model Description)
footprint LC0603-1 (Chip  inductor  0603 (1608))
pins: 1, 2

## L0603CS6N8H
designator L?, comment 6.8nH
RF chip inductor; Manufacturer: Coilcraft; Manufacturer No: 0603CS-6N8XJLU; Comment2: 5% 700mA 0.17R; Sort: 310; Tech: SMDR; Package: Chip Inductor 0603; Price: 0
signal-integrity model Model Name (Model Description)
footprint LC0603-1 (Chip  inductor  0603 (1608))
pins: 1, 2

## L0603CS18NH
designator L?, comment 18nH
RF chip inductor; Manufacturer: Coilcraft; Manufacturer No: 0603CS-18NXJLU; Comment2: 5% 700mA 0.17R; Sort: 310; Tech: SMDR; Package: Chip Inductor 0603; Price: 0
signal-integrity model Model Name (Model Description)
footprint LC0603-1 (Chip  inductor  0603 (1608))
pins: 1, 2

## L0603CS22NH
designator L?, comment 22nH
RF inductor 0603; Manufacturer: Coilcraft; Manufacturer No: 0603CS-22NXJLU; Comment2: 5% 700mA 0.19R; Sort: 310; Tech: SMDR; Package: Chip Inductor 0603; Price: 0
signal-integrity model Model Name (Model Description)
footprint LC0603-1 (Chip  inductor  0603 (1608))
pins: 1, 2

## L0603CS27NH
designator L?, comment 27nH
RF inductor 0603; Manufacturer: Coilcraft; Manufacturer No: 0603CS-27NXJLU; Comment2: 5% 600mA 0.22R; Sort: 310; Tech: SMDR; Package: Chip Inductor 0603; Price: 0
signal-integrity model Model Name (Model Description)
footprint LC0603-1 (Chip  inductor  0603 (1608))
pins: 1, 2

## L0603CS30NH
designator L?, comment 30nH
RF inductor 0603; Manufacturer: Coilcraft; Manufacturer No: 0603CS-30NXJLU; Comment2: 5% 600mA 0.22R; Sort: 310; Tech: SMDR; Package: Chip Inductor 0603; Price: 0
signal-integrity model Model Name (Model Description)
footprint LC0603-1 (Chip  inductor  0603 (1608))
pins: 1, 2

## L0603CS33NH
designator L?, comment 33nH
RF inductor 0603; Manufacturer: Coilcraft; Manufacturer No: 0603CS-33NXJLU; Comment2: 5% 600mA 0.22R; Sort: 310; Tech: SMDR; Package: Chip Inductor 0603; Price: 0
signal-integrity model Model Name (Model Description)
footprint LC0603-1 (Chip  inductor  0603 (1608))
pins: 1, 2

## L0603CS43NH
designator L?, comment 43nH
RF inductor 0603; Manufacturer: Coilcraft; Manufacturer No: 0603CS-43NXJLU; Comment2: 5% 600mA 0.28R; Sort: 310; Tech: SMDR; Package: Chip Inductor 0603; Price: 0
signal-integrity model Model Name (Model Description)
footprint LC0603-1 (Chip  inductor  0603 (1608))
pins: 1, 2

## L0603CS51NH
designator L?, comment 51nH
RF inductor 0603; Manufacturer: Coilcraft; Manufacturer No: 0603CS-51NXJLU; Comment2: 5% 600mA 0.22R; Sort: 310; Tech: SMDR; Package: Chip Inductor 0603; Price: 0
signal-integrity model Model Name (Model Description)
footprint LC0603-1 (Chip  inductor  0603 (1608))
pins: 1, 2

## L0603CS56NH
designator L?, comment 56nH
RF inductor 0603; Manufacturer: Coilcraft; Manufacturer No: 0603CS-56NXJLU; Comment2: 5% 600mA 0.31R; Sort: 310; Tech: SMDR; Package: Chip Inductor 0603; Price: 0
signal-integrity model Model Name (Model Description)
footprint LC0603-1 (Chip  inductor  0603 (1608))
pins: 1, 2

## L0603CS100NH
designator L?, comment 100nH  (value not drawn)
RF inductor 0603; Manufacturer: Wurth Elektronik; Manufacturer No: 7447962; Comment2: 50mA 0.5R; Sort: 310; Tech: SMDR; Package: Chip Inductor 0603; Price: 0
signal-integrity model Model Name (Model Description)
footprint RC0603-1 (Chip upor 0603)
pins: 1, 2

## L0603CS110NH
designator L?, comment 110nH
RF inductor 0603; Manufacturer: Coilcraft; Manufacturer No: 0603CS-R11XJLU; Comment2: 5% 300mA 0.61R; Sort: 310; Tech: SMDR; Package: Chip Inductor 0603; Price: 0
signal-integrity model Model Name (Model Description)
footprint LC0603-1 (Chip  inductor  0603 (1608))
footprint RC0603-1
pins: 1, 2

## L0603CS120NH
designator L?, comment 120nH
RF inductor 0603; Manufacturer: Coilcraft; Manufacturer No: 0603CS-R12XJLU; Comment2: 5% 300mA 0.65R; Sort: 310; Tech: SMDR; Package: Chip Inductor 0603; Price: 0
signal-integrity model Model Name (Model Description)
footprint LC0603-1 (Chip  inductor  0603 (1608))
footprint RC0603-1
pins: 1, 2

## L0603CS150NH
designator L?, comment 150nH
RF inductor 0603; Manufacturer: Coilcraft; Manufacturer No: 0603CS-R15XJLU; Comment2: 5% 280mA 0.92R; Sort: 310; Tech: SMDR; Package: Chip Inductor 0603; Price: 0
signal-integrity model Model Name (Model Description)
footprint LC0603-1 (Chip  inductor  0603 (1608))
footprint RC0603-1
pins: 1, 2

## L0603CS180NH
designator L?, comment 180nH
RF inductor 0603; Manufacturer: Coilcraft; Manufacturer No: 0603CS-R18XJLU; Comment2: 5% 240mA 1.25R; Sort: 310; Tech: SMDR; Package: Chip Inductor 0603; Price: 0
signal-integrity model Model Name (Model Description)
footprint LC0603-1 (Chip  inductor  0603 (1608))
pins: 1, 2

## L0603CS250NH
designator L?, comment 250nH
RF inductor 0603; Manufacturer: Coilcraft; Manufacturer No: 0603CS-R25XJLU; Comment2: 5% 120mA 3.55R; Sort: 310; Tech: SMDR; Package: Chip Inductor 0603; Price: 0
signal-integrity model Model Name (Model Description)
footprint LC0603-1 (Chip  inductor  0603 (1608))
pins: 1, 2

## L0603CS270NH
designator L?, comment 270nH
RF inductor 0603; Manufacturer: Coilcraft; Manufacturer No: 0603CS-R27XJLU; Comment2: 5% 170mA 2.3R; Sort: 310; Tech: SMDR; Package: Chip Inductor 0603; Price: 0
signal-integrity model Model Name (Model Description)
footprint LC0603-1 (Chip  inductor  0603 (1608))
pins: 1, 2

## L0603CS330NH
designator L?, comment 330nH
RF inductor 0603; Manufacturer: Coilcraft; Manufacturer No: 0603CS-R33XJLU; Comment2: 5% 100mA 3.9R; Sort: 310; Tech: SMDR; Package: Chip Inductor 0603; Price: 0
signal-integrity model Model Name (Model Description)
footprint LC0603-1 (Chip  inductor  0603 (1608))
pins: 1, 2

## L0603CS390NH
designator L?, comment 390nH
RF inductor 0603; Manufacturer: Coilcraft; Manufacturer No: 0603CS-R39XJLU; Comment2: 5% 100mA 4.4R; Sort: 310; Tech: SMDR; Package: Chip Inductor 0603; Price: 0
signal-integrity model Model Name (Model Description)
footprint LC0603-1 (Chip  inductor  0603 (1608))
pins: 1, 2

## L0603HP100NH
designator L?, comment 100nH
RF inductor 0603; Manufacturer: Coilcraft; Manufacturer No: 0603HP-R10X_L_; Comment2: 5.2% 470mA 0.54R; Sort: 310; Tech: SMDR; Package: Chip Inductor 0603; Price: 0
signal-integrity model Model Name (Model Description)
footprint RC0603-2 (Chip inductor 0603)
pins: 1, 2

## L0603LS560NH
designator L?, comment 560nH
RF inductor 0603; Manufacturer: Coilcraft; Manufacturer No: 0603LS-562XJLB; Comment2: 5% 550mA 2.6R; Sort: 310; Tech: SMDR; Package: Chip Inductor 0603; Price: 0
signal-integrity model Model Name (Model Description)
footprint LC0603-1 (Chip  inductor  0603 (1608))
pins: 1, 2

## L0603NI
designator L?, comment NI  (value not drawn)
RF inductor 0603; Manufacturer: Coilcraft; Manufacturer No: 0603CS-??; Sort: 310; Tech: SMDR; Package: Chip Inductor 0603; Price: 0
signal-integrity model Model Name (Model Description)
footprint LC0603-1 (Chip  inductor  0603 (1608))
pins: 1, 2

## L0603RF2N2H
designator L?, comment 2.2nH
RF chip inductor; Manufacturer: Murata, Farnell; Manufacturer No: LQG18HN2N2S00D,  1515384; Comment2: 13% 500mA 0.1R; Sort: 310; Tech: SMDR; Package: Chip Inductor 0603; Price: 0
signal-integrity model Model Name (Model Description)
footprint LC0603-1 (Chip  inductor  0603 (1608))
pins: 1, 2

## L0603RF2U2H
designator L?, comment 2.2uH
RF inductor 0603; Manufacturer: Murata; Manufacturer No: LQM18FN2R2M00B; Comment2: 5% 120mA 0.4R; Sort: 310; Tech: SMDR; Package: Chip Inductor 0603; Price: 0
signal-integrity model Model Name (Model Description)
footprint LC0603-1 (Chip  inductor  0603 (1608))
pins: 1, 2

## L0805CS1UH
designator L?, comment 1uH
RF inductor 0805; Manufacturer: Wurth Elektronik; Manufacturer No: 7447905; Comment2: 50mA 0.4R; Sort: 310; Tech: SMDR; Package: Chip Inductor 0805; Price: 0
signal-integrity model Model Name (Model Description)
footprint LC0805-1 (Chip inductor  0805)
pins: 1, 2

## L0805CS100NH
designator L?, comment 100nH  (value not drawn)
RF inductor 0805; Manufacturer: Wurth Elektronik; Manufacturer No: 74479021; Comment2: 250mA 0.2R; Sort: 310; Tech: SMDR; Package: Chip Inductor 0805; Price: 0
signal-integrity model Model Name (Model Description)
footprint LC0805-1 (Chip inductor  0805)
pins: 1, 2

## L0805CS470NH
designator L?, comment 470nH
RF inductor 0805; Manufacturer: Wurth Elektronik; Manufacturer No: 74479032; Comment2: 200mA 0.6R; Sort: 310; Tech: SMDR; Package: Chip Inductor 0805; Price: 0
signal-integrity model Model Name (Model Description)
footprint LC0805-1 (Chip inductor  0805)
pins: 1, 2

## L0805RF2U2H
designator L?, comment 2.2uH  (value not drawn)
RF chip inductor; Manufacturer: Kemet, Farnell; Manufacturer No: L0805C2R2MDWIT,  1457856; Comment2: 20% 0.64A 0.33R; Sort: 310; Tech: SMDR; Package: Chip Inductor 0805; Price: 0
signal-integrity model Model Name (Model Description)
footprint LC0805-1 (Chip inductor  0805)
pins: 1, 2

## L0805RF4N7H
designator L?, comment 4.7nH
RF chip inductor; Manufacturer: AVX, Farnell; Manufacturer No: L08054R7DESTR,  1100444; Comment2: 10% 1.5A 0.1R; Sort: 310; Tech: SMDR; Package: Chip Inductor 0805; Price: 0
signal-integrity model Model Name (Model Description)
footprint LC0805-1 (Chip inductor  0805)
pins: 1, 2

## L1008-10UH
designator L?, comment 10uH
RF chip inductor; Manufacturer: Panasonic, Farnell; Manufacturer No: ELJFC100JF, 1198424; Comment2: 5% 80mA 3R5  Q25; Sort: 310; Tech: SMDR; Package: Chip Inductor 1008; Price: 0
signal-integrity model Model Name (Model Description)
footprint LC1008-2 (Chip inductor  1008 2.84x2.73mm)
pins: 1, 2

## L1008CS1UH
designator L?, comment 1uH
RF chip inductor; Manufacturer: Coilcraft; Manufacturer No: 1008CS-102XJLB; Comment2: 5% 370mA 1.75R Q35; Sort: 310; Tech: SMDR; Package: Chip Inductor 1008; Price: 0
signal-integrity model Model Name (Model Description)
footprint LC1008-2 (Chip inductor  1008 2.84x2.73mm)
pins: 1, 2

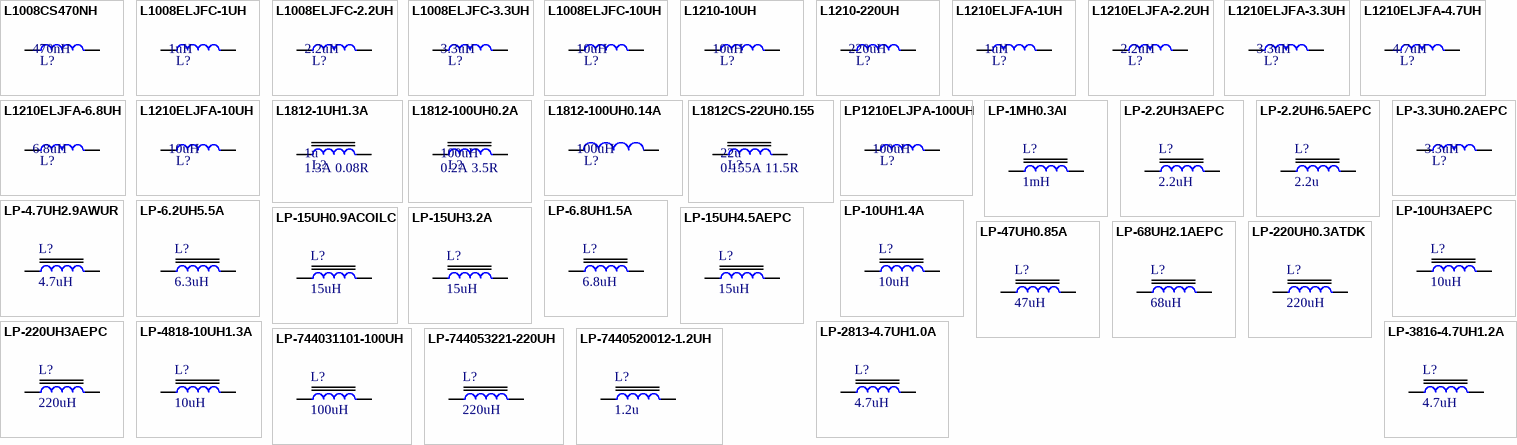
[diagram p3: symbols L1008CS470NH to LP-7440520012-1.2UH]

## L1008CS470NH
designator L?, comment 470nH
RF inductor 1008; Manufacturer: Coilcraft; Manufacturer No: 1008CS-471XJLB; Comment2: 5% 470mA 1.19R; Sort: 310; Tech: SMDR; Package: Chip Inductor 1008; Price: 0
signal-integrity model Model Name (Model Description)
footprint LC1008-2 (Chip inductor  1008 2.84x2.73mm)
pins: 1, 2

## L1008ELJFC-1UH
designator L?, comment 1uH
GP chip wound ferrite inductor 1008; Manufacturer: Panasonic, Farnell; Manufacturer No: ELJFC1R0JF, 1198419; Comment2: 5% 195mA 0.65R Q25; Sort: 310; Tech: SMDR; Package: Chip Inductor 1008; Price: 0.35
signal-integrity model Model Name (Model Description)
footprint LC1008-2 (Chip inductor  1008 2.84x2.73mm)
pins: 1, 2

## L1008ELJFC-2.2UH
designator L?, comment 2.2uH
GP chip wound ferrite inductor 1008; Manufacturer: Panasonic, Farnell; Manufacturer No: ELJFC2R2JF, 1198422; Comment2: 5% 155mA 1.05R Q25; Sort: 310; Tech: SMDR; Package: Chip Inductor 1008; Price: 0.35
signal-integrity model Model Name (Model Description)
footprint LC1008-2 (Chip inductor  1008 2.84x2.73mm)
pins: 1, 2

## L1008ELJFC-3.3UH
designator L?, comment 3.3uH
GP chip wound ferrite inductor 1008; Manufacturer: Panasonic, Farnell; Manufacturer No: ELJFC3R3JF, 1198423; Comment2: 5% 135mA 1.3R Q25; Sort: 310; Tech: SMDR; Package: Chip Inductor 1008; Price: 0.35
signal-integrity model Model Name (Model Description)
footprint LC1008-2 (Chip inductor  1008 2.84x2.73mm)
pins: 1, 2

## L1008ELJFC-10UH
designator L?, comment 10uH
GP chip wound ferrite inductor 1008; Manufacturer: Panasonic, Farnell; Manufacturer No: ELJFC100JF, 1198424; Comment2: 5%  80mA 3.7R Q25; Sort: 310; Tech: SMDR; Package: Chip Inductor 1008; Price: 0.35
signal-integrity model Model Name (Model Description)
footprint LC1008-2 (Chip inductor  1008 2.84x2.73mm)
pins: 1, 2

## L1210-10UH
designator L?, comment 10uH
RF chip inductor; Manufacturer: Murata, Farnell; Manufacturer No: LQH32CN100K33, 9522204; Comment2: 10% 450mA 0R3 Q35; Sort: 310; Tech: SMDR; Package: Chip Inductor 1008; Price: 0
signal-integrity model Model Name (Model Description)
footprint LP1210-1 (Chip capacitor 1210 (3225))
pins: 1, 2

## L1210-220UH
designator L?, comment 220uH
RF chip inductor; Manufacturer: Murata, Farnell; Manufacturer No: LQH32CN221K23, 9522239; Comment2: 10% 70mA 8R4; Sort: 310; Tech: SMDR; Package: Chip Inductor 1008; Price: 0
signal-integrity model Model Name (Model Description)
footprint LP1210-1 (Chip capacitor 1210 (3225))
pins: 1, 2

## L1210ELJFA-1UH
designator L?, comment 1uH
GP chip wound ferrite inductor 1210; Manufacturer: Panasonic, Farnell; Manufacturer No: ELJFA1R0JF2, 1198443; Comment2: 5% 230mA 0.69R Q30; Sort: 310; Tech: SMDR; Package: Chip Inductor 1210; Price: 0.35
signal-integrity model Model Name (Model Description)
footprint LP1210-1 (Chip capacitor 1210 (3225))
pins: 1, 2

## L1210ELJFA-2.2UH
designator L?, comment 2.2uH
GP chip wound ferrite inductor 1210; Manufacturer: Panasonic, Farnell; Manufacturer No: ELJFA2R2JF, 1198447; Comment2: 5% 190mA 0.95R Q30; Sort: 310; Tech: SMDR; Package: Chip Inductor 1210; Price: 0.35
signal-integrity model Model Name (Model Description)
footprint LP1210-1 (Chip capacitor 1210 (3225))
pins: 1, 2

## L1210ELJFA-3.3UH
designator L?, comment 3.3uH
GP chip wound ferrite inductor 1210; Manufacturer: Panasonic, Farnell; Manufacturer No: ELJFA3R3JF, 1198449; Comment2: 5% 180mA 1.2R Q30; Sort: 310; Tech: SMDR; Package: Chip Inductor 1210; Price: 0.35
signal-integrity model Model Name (Model Description)
footprint LP1210-1 (Chip capacitor 1210 (3225))
pins: 1, 2

## L1210ELJFA-4.7UH
designator L?, comment 4.7uH
GP chip wound ferrite inductor 1210; Manufacturer: Panasonic, Farnell; Manufacturer No: ELJFA4R7JF, 1198451; Comment2: 5% 165mA 1.5R Q30; Sort: 310; Tech: SMDR; Package: Chip Inductor 1210; Price: 0.35
signal-integrity model Model Name (Model Description)
footprint LP1210-1 (Chip capacitor 1210 (3225))
pins: 1, 2

## L1210ELJFA-6.8UH
designator L?, comment 6.8uH
GP chip wound ferrite inductor 1210; Manufacturer: Panasonic, Farnell; Manufacturer No: ELJFA6R8JF, 1198454; Comment2: 5% 150mA 1.8R Q30; Sort: 310; Tech: SMDR; Package: Chip Inductor 1210; Price: 0.35
signal-integrity model Model Name (Model Description)
footprint LP1210-1 (Chip capacitor 1210 (3225))
pins: 1, 2

## L1210ELJFA-10UH
designator L?, comment 10uH
GP chip wound ferrite inductor 1210; Manufacturer: Panasonic, Farnell; Manufacturer No: ELJFA100JF, 1198456; Comment2: 5% 140mA 2.1R Q30; Sort: 310; Tech: SMDR; Package: Chip Inductor 1210; Price: 0.35
signal-integrity model Model Name (Model Description)
footprint LP1210-1 (Chip capacitor 1210 (3225))
pins: 1, 2

## L1812-1UH1.3A
designator L?, comment 1u  Comment2: 1.3A 0.08R
High current inductor SMD 1812 4.5x3.2x3,2mm; Manufacturer: Epcos, Farnell; Manufacturer No: B82432T1102K, 4826681; Sort: 310; Tech: SMDR; Package: Chip Inductor 1812 H3,2mm; Price: 0
signal-integrity model Model Name (Model Description)
footprint LC1812-32 (Chip capacitor 1812 (4532) 4.5x3.2x3.2mm)
pins: 1, 2

## L1812-100UH0.2A
designator L?, comment 100uH  Comment2: 0.2A 3.5R
High current inductor SMD 1812 4.5x3.2x3,2mm; Manufacturer: Epcos, Farnell; Manufacturer No: B82432T1104K, 8808503; Sort: 310; Tech: SMDR; Package: Chip Inductor 1812 H3,2mm; Price: 0
signal-integrity model Model Name (Model Description)
footprint LC1812-32 (Chip capacitor 1812 (4532) 4.5x3.2x3.2mm)
pins: 1, 2

## L1812-100UH0.14A
designator L?, comment 100uH
General purpose inductor SMD 1812; Manufacturer: BURKLIN; Manufacturer No: 76D9258; Comment2: 0.145A 4.7R; Sort: 310; Tech: SMDR; Price: 0
signal-integrity model Model Name (Model Description)
footprint LC1812-1 (Chip capacitor 1812 (4532))
pins: 1, 2

## L1812CS-22UH0.155
designator L?, comment 22u  Comment2: 0.155A 11.5R
General Purpose Inductor SMD 1812 4.5x3.2x3,2mm; Manufacturer: Coilcraft; Manufacturer No: 1812CS-223X_LB; Sort: 310; Tech: SMDR; Package: Chip Inductor 1812 H3,2mm; Price: 0
signal-integrity model Model Name (Model Description)
footprint LC1812-CS (Chip Inductor, 2-Leads, Body 4,9x3,8mm, IPC Medium Density)
pins: 1, 2

## LP1210ELJPA-100UH
designator L?, comment 100uH
GP chip wound ferrite inductor 1210; Manufacturer: Panasonic, Farnell; Manufacturer No: ELJPA101KF,  1198483; Comment2: 10% 90mA 5.0R Q20; Sort: 310; Tech: SMDR; Package: Chip Inductor 1210; Price: 0.31
signal-integrity model Model Name (Model Description)
footprint LP1210-1 (Chip capacitor 1210 (3225))
pins: 1, 2

## LP-1MH0.3AI
designator L?, comment 1mH
Power inductor; Manufacturer: Wuerth Elektronik; Manufacturer No: 744772102; Comment2: 0.3A  2.9R; Sort: 320; Tech: SMDR; Package: Pow Inductor; Price: 0
signal-integrity model Model Name (Model Description)
footprint LP1MH0.3AV
pins: 1, 2

## LP-2.2UH3AEPC
designator L?, comment 2.2uH
Power inductor 7.3x7.3x4.5mm; Manufacturer: Epcos; Manufacturer No: B82472G6222M; Comment2: 3A; Sort: 320; Tech: SMDR; Price: 0
signal-integrity model Model Name (Model Description)
footprint L7.3X7.3X4.5 (SMD inductor 7.3x7.3x4.5mm shielded)
pins: 1, 2

## LP-2.2UH6.5AEPC
designator L?, comment 2.2u
Power inductor 10x10mm; Manufacturer: Epcos, Farnell; Manufacturer No: B82464-G4222-M, 7429401; Comment2: 6.5A 0.01R; Sort: 320; Tech: SMDR; Package: Inductor Power 10x10mm; Price: 0
signal-integrity model Model Name (Model Description)
footprint L10x10x4.8 (Power inductor 10x10x4.8mm EPCOS)
pins: 1, 2

## LP-3.3UH0.2AEPC
designator L?, comment 3.3uH
RF chip inductor; Manufacturer: Epcos, Farnell; Manufacturer No: B82422A1332+100, 1644343; Comment2: 10% 200mA 1R2 Q27; Sort: 310; Tech: SMDR; Package: Chip Inductor 1008; Price: 0
signal-integrity model Model Name (Model Description)
footprint LP1210-1 (Chip capacitor 1210 (3225))
pins: 1, 2

## LP-4.7UH2.9AWUR
designator L?, comment 4.7uH
Power inductor 7.3x7.3x3.2mm; Manufacturer: Wurth, Farnell; Manufacturer No: 7447789004, 1635969; Comment2: 2.9A 0.033R; Sort: 320; Tech: SMDR; Price: 0
footprint L7.3X7.3X3.2 (SMD inductor 7.3x7.3x3.2mm shielded)
pins: 1, 2

## LP-6.2UH5.5A
designator L?, comment 6.3uH
Power inductor 10x10x3.8mm; Manufacturer: Wurth Elektronik; Manufacturer No: 7447797620; Comment2: 5.5A 25.mR 6.2uH; Sort: 320; Tech: SMDR; Price: 0
signal-integrity model Model Name (Model Description)
footprint LP10X10X3.2 (Power inductor 10x10x3.2mm)
pins: 1, 2

## LP-6.8UH1.5A
designator L?, comment 6.8uH
Power inductor 4.8x4.8x1.8mm WE-TPC; Manufacturer: Wurth Elektronik; Manufacturer No: 744042006; Comment2: 1.5A 95mR 6.8uH; Sort: 320; Tech: SMDR; Price: 0
signal-integrity model Model Name (Model Description)
footprint LP4.8X4.8X1.8 (SMD Power inductor 4.8x4.8x1.8mm shielded)
pins: 1, 2

## LP-10UH1.4A
designator L?, comment 10uH
Power inductor WE-TPC type LH; Manufacturer: Wurth Elektronik, Farnell; Manufacturer No: 744053100, 1635862; Comment2: 0.07Rdc 1.4A Isat 30%; Sort: 320; Tech: SMDR; Package: Pow Induct 5.8x5.8x2.8mm; Price: 1.1
signal-integrity model Model Name (Model Description)
footprint Model Name (Footprint not found)
footprint LP5.8X5.8X2.8 (SMD Power inductor 5.8x5.8x2.8mm shielded)
pins: 1, 2

## LP-10UH3AEPC
designator L?, comment 10uH
Power inductor 7.3x7.3x4.5mm; Manufacturer: Epcos; Manufacturer No: B82472G6103M000; Comment2: 1.4A 0.053R; Sort: 320; Tech: SMDR; Price: 0
signal-integrity model Model Name (Model Description)
footprint L7.3X7.3X4.5 (SMD inductor 7.3x7.3x4.5mm shielded)
pins: 1, 2

## LP-15UH0.9ACOILC
designator L?, comment 15uH
Power inductor DO1608; Manufacturer: Coilcraft; Manufacturer No: DO1608C-153ML; Comment2: 0.9A; Sort: 320; Tech: SMDR; Package: DO1608; Price: 0
signal-integrity model Model Name (Model Description)
footprint Model Name (Footprint not found)
footprint LDO1608
pins: 1, 2

## LP-15UH3.2A
designator L?, comment 15uH
Power inductor 10x10x3.8mm; Manufacturer: Wurth Elektronik; Manufacturer No: 744066150; Comment2: 3.2A 40mR 15uH; Sort: 320; Tech: SMDR; Price: 0
signal-integrity model Model Name (Model Description)
footprint LP10X10X3.2 (Power inductor 10x10x3.2mm)
pins: 1, 2

## LP-15UH4.5AEPC
designator L?, comment 15uH
Power inductor 12.8x12.8x8mm; Manufacturer: Epcos; Manufacturer No: B82477G4153M; Comment2: 4.5A; Sort: 320; Tech: SMDR; Price: 0
signal-integrity model Model Name (Model Description)
footprint L12.8X12.8X8 (Power inductor 12.8x12.8x8mm EPCOS)
pins: 1, 2

## LP-47UH0.85A
designator L?, comment 47uH
Power inductor 7.3x7.3x3.2mm WE-PD; Manufacturer: Wurth Elektronik; Manufacturer No: 744778147; Comment2: 0.85A  0.315R; Sort: 320; Tech: SMDR; Package: 7.3x7.3x3.2mm; Price: 0
signal-integrity model Model Name (Model Description)
footprint LP7.3X7.3X3.2 (SMD Power inductor 7.3x7.3x3.2mm shielded)
pins: 1, 2